# Altium schematic symbol library Fuse_Sch.SchLib: 3 symbols
Pins are listed as number, name and electrical type; pins without a type are passive.

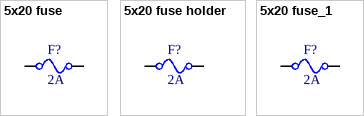
[diagram p0: symbols 5x20 fuse to 5x20 fuse_1]

## 5x20 fuse
designator F?, comment 2A
5x20 fuse holder clip; Value: 2A
footprint 5x20 fuse holder clip R3-5A
pins: 1, 2

## 5x20 fuse holder
designator F?, comment 2A
5x20 fuse radial holder; Value: 2A
footprint 5x20 radial fuse holder
pins: 1, 2

## 5x20 fuse_1
designator F?, comment 2A
5x20 fuse holder clip; Value: 2A
footprint L-KLS5-2611
pins: 1, 2